# EAGLE library part BMP280 (library NaRRIK)
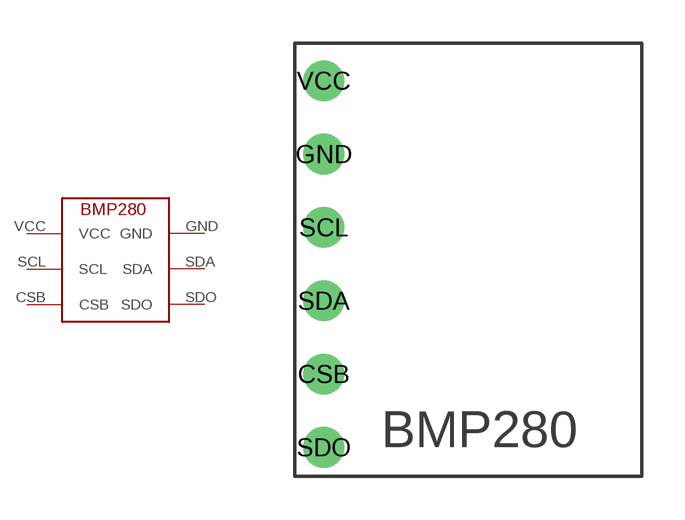
[diagram p1: symbol with the pads of BMP280; footprint BMP280]

Designator prefix -

## BMP280  [BMP280]
CSB  CSB
GND  GND
SCL  SCL
SDA  SDA
SDO  SDO
VCC  VCC

## Footprint BMP280 (pad centres in mm)
drill 0.9: CSB 1,3.54; GND 1,11.16; SCL 1,8.62; SDA 1,6.08; SDO 1,1; VCC 1,13.7